# Altium schematic symbol library Schlib.SchLib: 1 symbol
Pins are listed as number, name and electrical type; pins without a type are passive.

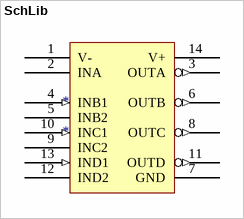
[diagram p0: symbol SchLib]

## SchLib
designator *
footprint PCBComponent_1
pins: 1 V- (power), 2 INA, 3 OUTA (out), 4 INB1 (in), 5 INB2, 6 OUTB (out), 7 GND (power), 8 OUTC (out), 9 INC2, 10 INC1 (in), 11 OUTD (out), 12 IND2, 13 IND1 (in), 14 V+ (power)